# Altium integrated library NSC Interface.IntLib: 1288 symbols (part 14 of 45)
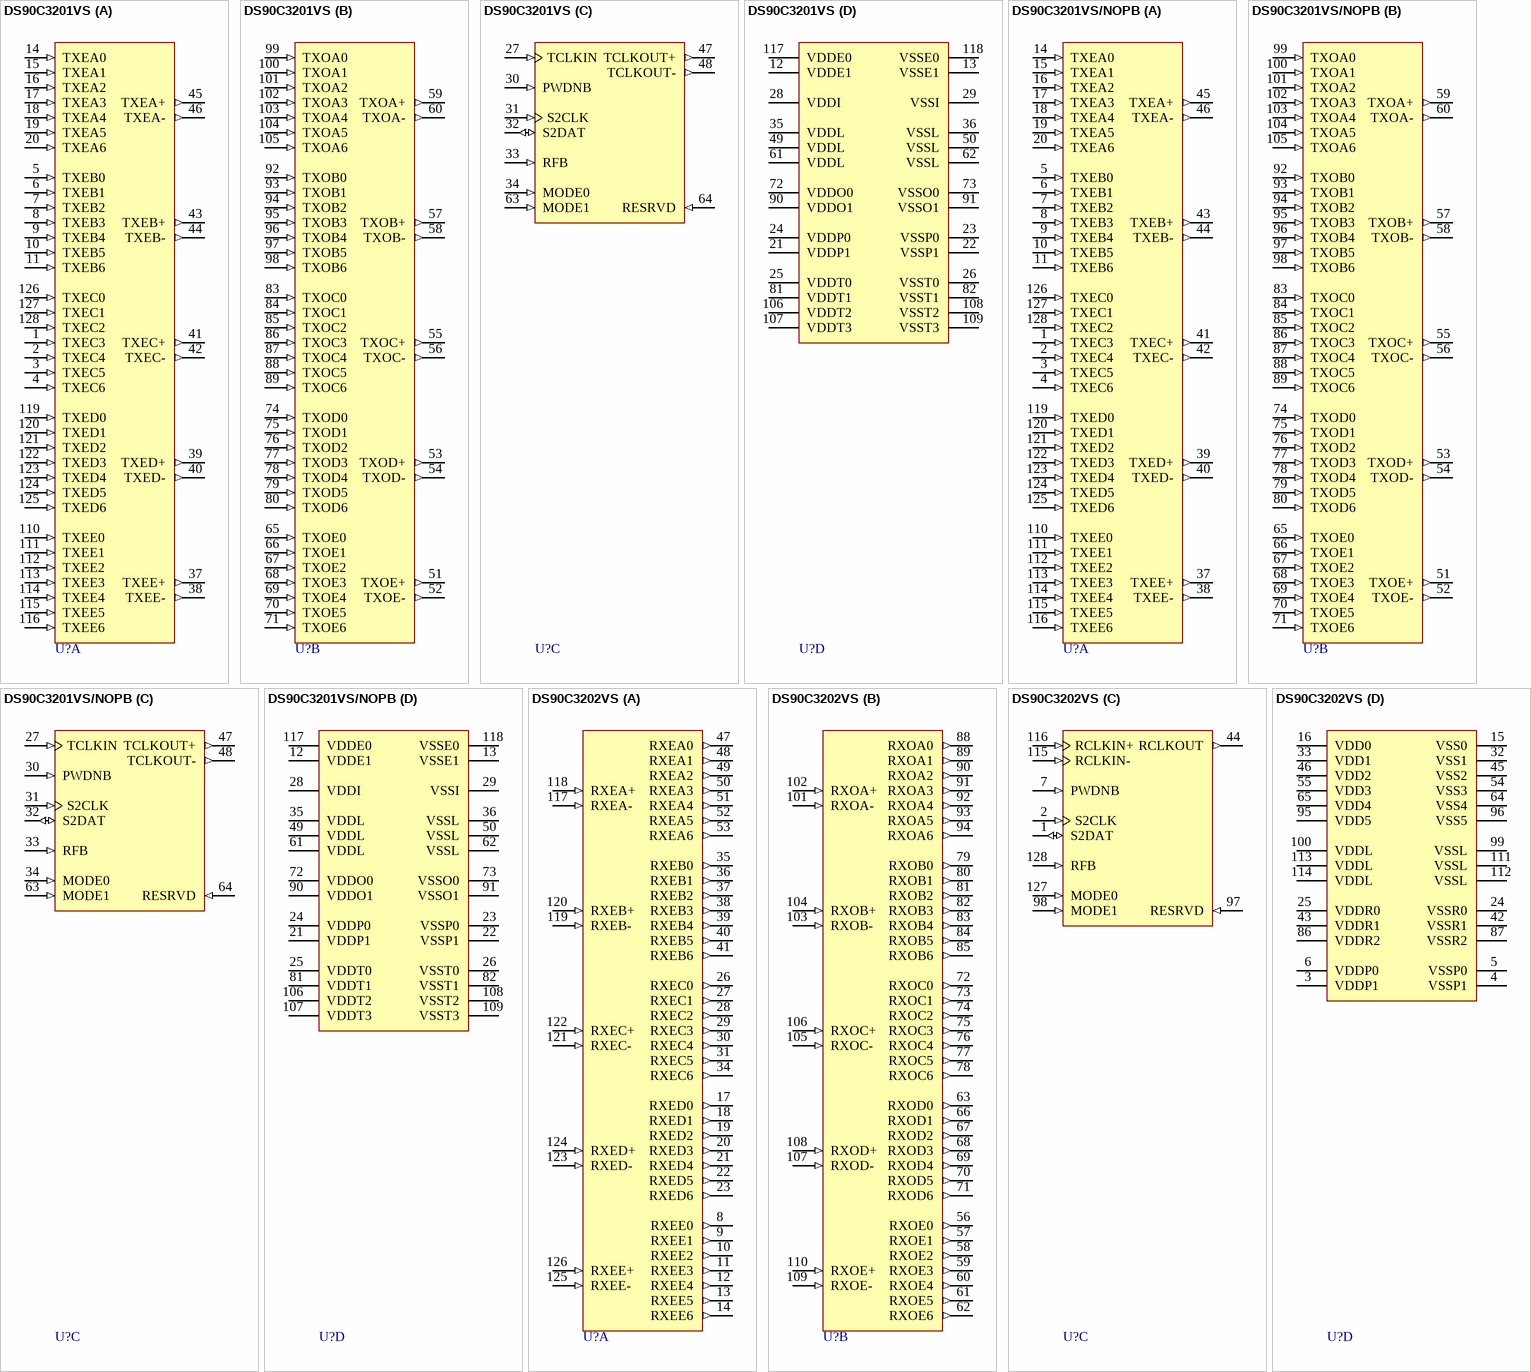
[diagram p125: symbols DS90C3201VS to DS90C3202VS]

## DS90C3201VS
designator U?
3.3V 8 MHz to 135 MHz Dual FPD-Link Transmitter, 128-pin TQFP; PartNumber: DS90C3201VS; Manufacturer: National Semiconductor; PackageTopMarking: NSUZXYYTT*DS90C3201VS; PowerWise: N; CompType: Interface IC; Published: 4-Dec-2008; DatasheetVersion: Sep-2008; PackageVersion: revA, Nov-2001; PackageReference: VJX128A; Publisher: Altium Limited; PackageDescription: TQFP, 14 x 14 x 1.0mm, 128 Lead, 0.4mm Pitch; RoHS: Y; PinCount: 128; ComponentLink1Description: DS90C3201 Datasheet; ComponentLink1URL: http://www.national.com/ds/DS/DS90C3201.pdf; ComponentLink2Description: DS90C3201 Web Page; ComponentLink2URL: http://www.national.com/pf/DS/DS90C3201.html; ComponentLink3Description: VJX128A Package Page; ComponentLink3URL: http://www.national.com/packaging/folders/vjx128a.html
footprint VJX128A_N (Thin QFP, 128-Leads, Body 14x14mm, Pitch 0.4mm, IPC Medium Density)
footprint VJX128A_L (Thin QFP, 128-Leads, Body 14x14mm, Pitch 0.4mm, IPC High Density)
footprint VJX128A_M (Thin QFP, 128-Leads, Body 14x14mm, Pitch 0.4mm, IPC Low Density)
part A pins: 1 TXEC3 (in), 2 TXEC4 (in), 3 TXEC5 (in), 4 TXEC6 (in), 5 TXEB0 (in), 6 TXEB1 (in), 7 TXEB2 (in), 8 TXEB3 (in), 9 TXEB4 (in), 10 TXEB5 (in), 11 TXEB6 (in), 14 TXEA0 (in), 15 TXEA1 (in), 16 TXEA2 (in), 17 TXEA3 (in), 18 TXEA4 (in), 19 TXEA5 (in), 20 TXEA6 (in), 37 TXEE+ (out), 38 TXEE- (out), 39 TXED+ (out), 40 TXED- (out), 41 TXEC+ (out), 42 TXEC- (out), 43 TXEB+ (out), 44 TXEB- (out), 45 TXEA+ (out), 46 TXEA- (out), 110 TXEE0 (in), 111 TXEE1 (in), 112 TXEE2 (in), 113 TXEE3 (in), 114 TXEE4 (in), 115 TXEE5 (in), 116 TXEE6 (in), 119 TXED0 (in), 120 TXED1 (in), 121 TXED2 (in), 122 TXED3 (in), 123 TXED4 (in), 124 TXED5 (in), 125 TXED6 (in), 126 TXEC0 (in), 127 TXEC1 (in), 128 TXEC2 (in)
part B pins: 51 TXOE+ (out), 52 TXOE- (out), 53 TXOD+ (out), 54 TXOD- (out), 55 TXOC+ (out), 56 TXOC- (out), 57 TXOB+ (out), 58 TXOB- (out), 59 TXOA+ (out), 60 TXOA- (out), 65 TXOE0 (in), 66 TXOE1 (in), 67 TXOE2 (in), 68 TXOE3 (in), 69 TXOE4 (in), 70 TXOE5 (in), 71 TXOE6 (in), 74 TXOD0 (in), 75 TXOD1 (in), 76 TXOD2 (in), 77 TXOD3 (in), 78 TXOD4 (in), 79 TXOD5 (in), 80 TXOD6 (in), 83 TXOC0 (in), 84 TXOC1 (in), 85 TXOC2 (in), 86 TXOC3 (in), 87 TXOC4 (in), 88 TXOC5 (in), 89 TXOC6 (in), 92 TXOB0 (in), 93 TXOB1 (in), 94 TXOB2 (in), 95 TXOB3 (in), 96 TXOB4 (in), 97 TXOB5 (in), 98 TXOB6 (in), 99 TXOA0 (in), 100 TXOA1 (in), 101 TXOA2 (in), 102 TXOA3 (in), 103 TXOA4 (in), 104 TXOA5 (in), 105 TXOA6 (in)
part C pins: 27 TCLKIN (in), 30 PWDNB (in), 31 S2CLK (in), 32 S2DAT (io), 33 RFB (in), 34 MODE0 (in), 47 TCLKOUT+ (out), 48 TCLKOUT- (out), 63 MODE1 (in), 64 RESRVD (in)
part D pins: 12 VDDE1 (power), 13 VSSE1 (power), 21 VDDP1 (power), 22 VSSP1 (power), 23 VSSP0 (power), 24 VDDP0 (power), 25 VDDT0 (power), 26 VSST0 (power), 28 VDDI (power), 29 VSSI (power), 35 VDDL (power), 36 VSSL (power), 49 VDDL (power), 50 VSSL (power), 61 VDDL (power), 62 VSSL (power), 72 VDDO0 (power), 73 VSSO0 (power), 81 VDDT1 (power), 82 VSST1 (power), 90 VDDO1 (power), 91 VSSO1 (power), 106 VDDT2 (power), 107 VDDT3 (power), 108 VSST2 (power), 109 VSST3 (power), 117 VDDE0 (power), 118 VSSE0 (power)

## DS90C3201VS/NOPB
designator U?
3.3V 8 MHz to 135 MHz Dual FPD-Link Transmitter, 128-pin TQFP, Pb-Free; PartNumber: DS90C3201VS/NOPB; Manufacturer: National Semiconductor; PackageTopMarking: NSUZXYYTTE#*DS90C3201VS; PowerWise: N; CompType: Interface IC; Published: 1-Mar-2010; DatasheetVersion: Sep-2008; PackageVersion: revA, Nov-2001; PackageReference: VJX128A; Publisher: Altium Limited; PackageDescription: TQFP, 14 x 14 x 1.0mm, 128 Lead, 0.4mm Pitch; Supplier 1: Digi-Key; Supplier Part Number 1: DS90C3201VS-ND; RoHS: Y; PinCount: 128; ComponentLink1Description: DS90C3201 Datasheet; ComponentLink1URL: http://www.national.com/ds/DS/DS90C3201.pdf; ComponentLink2Description: DS90C3201 Web Page; ComponentLink2URL: http://www.national.com/pf/DS/DS90C3201.html; ComponentLink3Description: VJX128A Package Page; ComponentLink3URL: http://www.national.com/packaging/folders/vjx128a.html
footprint VJX128A_N (Thin QFP, 128-Leads, Body 14x14mm, Pitch 0.4mm, IPC Medium Density)
footprint VJX128A_L (Thin QFP, 128-Leads, Body 14x14mm, Pitch 0.4mm, IPC High Density)
footprint VJX128A_M (Thin QFP, 128-Leads, Body 14x14mm, Pitch 0.4mm, IPC Low Density)
part A pins: 1 TXEC3 (in), 2 TXEC4 (in), 3 TXEC5 (in), 4 TXEC6 (in), 5 TXEB0 (in), 6 TXEB1 (in), 7 TXEB2 (in), 8 TXEB3 (in), 9 TXEB4 (in), 10 TXEB5 (in), 11 TXEB6 (in), 14 TXEA0 (in), 15 TXEA1 (in), 16 TXEA2 (in), 17 TXEA3 (in), 18 TXEA4 (in), 19 TXEA5 (in), 20 TXEA6 (in), 37 TXEE+ (out), 38 TXEE- (out), 39 TXED+ (out), 40 TXED- (out), 41 TXEC+ (out), 42 TXEC- (out), 43 TXEB+ (out), 44 TXEB- (out), 45 TXEA+ (out), 46 TXEA- (out), 110 TXEE0 (in), 111 TXEE1 (in), 112 TXEE2 (in), 113 TXEE3 (in), 114 TXEE4 (in), 115 TXEE5 (in), 116 TXEE6 (in), 119 TXED0 (in), 120 TXED1 (in), 121 TXED2 (in), 122 TXED3 (in), 123 TXED4 (in), 124 TXED5 (in), 125 TXED6 (in), 126 TXEC0 (in), 127 TXEC1 (in), 128 TXEC2 (in)
part B pins: 51 TXOE+ (out), 52 TXOE- (out), 53 TXOD+ (out), 54 TXOD- (out), 55 TXOC+ (out), 56 TXOC- (out), 57 TXOB+ (out), 58 TXOB- (out), 59 TXOA+ (out), 60 TXOA- (out), 65 TXOE0 (in), 66 TXOE1 (in), 67 TXOE2 (in), 68 TXOE3 (in), 69 TXOE4 (in), 70 TXOE5 (in), 71 TXOE6 (in), 74 TXOD0 (in), 75 TXOD1 (in), 76 TXOD2 (in), 77 TXOD3 (in), 78 TXOD4 (in), 79 TXOD5 (in), 80 TXOD6 (in), 83 TXOC0 (in), 84 TXOC1 (in), 85 TXOC2 (in), 86 TXOC3 (in), 87 TXOC4 (in), 88 TXOC5 (in), 89 TXOC6 (in), 92 TXOB0 (in), 93 TXOB1 (in), 94 TXOB2 (in), 95 TXOB3 (in), 96 TXOB4 (in), 97 TXOB5 (in), 98 TXOB6 (in), 99 TXOA0 (in), 100 TXOA1 (in), 101 TXOA2 (in), 102 TXOA3 (in), 103 TXOA4 (in), 104 TXOA5 (in), 105 TXOA6 (in)
part C pins: 27 TCLKIN (in), 30 PWDNB (in), 31 S2CLK (in), 32 S2DAT (io), 33 RFB (in), 34 MODE0 (in), 47 TCLKOUT+ (out), 48 TCLKOUT- (out), 63 MODE1 (in), 64 RESRVD (in)
part D pins: 12 VDDE1 (power), 13 VSSE1 (power), 21 VDDP1 (power), 22 VSSP1 (power), 23 VSSP0 (power), 24 VDDP0 (power), 25 VDDT0 (power), 26 VSST0 (power), 28 VDDI (power), 29 VSSI (power), 35 VDDL (power), 36 VSSL (power), 49 VDDL (power), 50 VSSL (power), 61 VDDL (power), 62 VSSL (power), 72 VDDO0 (power), 73 VSSO0 (power), 81 VDDT1 (power), 82 VSST1 (power), 90 VDDO1 (power), 91 VSSO1 (power), 106 VDDT2 (power), 107 VDDT3 (power), 108 VSST2 (power), 109 VSST3 (power), 117 VDDE0 (power), 118 VSSE0 (power)

## DS90C3202VS
designator U?
3.3V 8 MHz to 135 MHz Dual FPD-Link Receiver, 128-pin TQFP; PartNumber: DS90C3202VS; Manufacturer: National Semiconductor; PackageTopMarking: NSUZXYYTT*DS90C3202VS; PowerWise: N; CompType: Interface IC; Published: 4-Dec-2008; DatasheetVersion: Sep-2006; PackageVersion: revA, Nov-2001; PackageReference: VJX128A; Publisher: Altium Limited; PackageDescription: TQFP, 14 x 14 x 1.0mm, 128 Lead, 0.4mm Pitch; RoHS: Y; PinCount: 128; ComponentLink1Description: DS90C3202 Datasheet; ComponentLink1URL: http://www.national.com/ds/DS/DS90C3202.pdf; ComponentLink2Description: DS90C3202 Web Page; ComponentLink2URL: http://www.national.com/pf/DS/DS90C3202.html; ComponentLink3Description: VJX128A Package Page; ComponentLink3URL: http://www.national.com/packaging/folders/vjx128a.html
footprint VJX128A_N (Thin QFP, 128-Leads, Body 14x14mm, Pitch 0.4mm, IPC Medium Density)
footprint VJX128A_L (Thin QFP, 128-Leads, Body 14x14mm, Pitch 0.4mm, IPC High Density)
footprint VJX128A_M (Thin QFP, 128-Leads, Body 14x14mm, Pitch 0.4mm, IPC Low Density)
part A pins: 8 RXEE0 (out), 9 RXEE1 (out), 10 RXEE2 (out), 11 RXEE3 (out), 12 RXEE4 (out), 13 RXEE5 (out), 14 RXEE6 (out), 17 RXED0 (out), 18 RXED1 (out), 19 RXED2 (out), 20 RXED3 (out), 21 RXED4 (out), 22 RXED5 (out), 23 RXED6 (out), 26 RXEC0 (out), 27 RXEC1 (out), 28 RXEC2 (out), 29 RXEC3 (out), 30 RXEC4 (out), 31 RXEC5 (out), 34 RXEC6 (out), 35 RXEB0 (out), 36 RXEB1 (out), 37 RXEB2 (out), 38 RXEB3 (out), 39 RXEB4 (out), 40 RXEB5 (out), 41 RXEB6 (out), 47 RXEA0 (out), 48 RXEA1 (out), 49 RXEA2 (out), 50 RXEA3 (out), 51 RXEA4 (out), 52 RXEA5 (out), 53 RXEA6 (out), 117 RXEA- (in), 118 RXEA+ (in), 119 RXEB- (in), 120 RXEB+ (in), 121 RXEC- (in), 122 RXEC+ (in), 123 RXED- (in), 124 RXED+ (in), 125 RXEE- (in), 126 RXEE+ (in)
part B pins: 56 RXOE0 (out), 57 RXOE1 (out), 58 RXOE2 (out), 59 RXOE3 (out), 60 RXOE4 (out), 61 RXOE5 (out), 62 RXOE6 (out), 63 RXOD0 (out), 66 RXOD1 (out), 67 RXOD2 (out), 68 RXOD3 (out), 69 RXOD4 (out), 70 RXOD5 (out), 71 RXOD6 (out), 72 RXOC0 (out), 73 RXOC1 (out), 74 RXOC2 (out), 75 RXOC3 (out), 76 RXOC4 (out), 77 RXOC5 (out), 78 RXOC6 (out), 79 RXOB0 (out), 80 RXOB1 (out), 81 RXOB2 (out), 82 RXOB3 (out), 83 RXOB4 (out), 84 RXOB5 (out), 85 RXOB6 (out), 88 RXOA0 (out), 89 RXOA1 (out), 90 RXOA2 (out), 91 RXOA3 (out), 92 RXOA4 (out), 93 RXOA5 (out), 94 RXOA6 (out), 101 RXOA- (in), 102 RXOA+ (in), 103 RXOB- (in), 104 RXOB+ (in), 105 RXOC- (in), 106 RXOC+ (in), 107 RXOD- (in), 108 RXOD+ (in), 109 RXOE- (in), 110 RXOE+ (in)
part C pins: 1 S2DAT (io), 2 S2CLK (in), 7 PWDNB (in), 44 RCLKOUT (out), 97 RESRVD (in), 98 MODE1 (in), 115 RCLKIN- (in), 116 RCLKIN+ (in), 127 MODE0 (in), 128 RFB (in)
part D pins: 3 VDDP1 (power), 4 VSSP1 (power), 5 VSSP0 (power), 6 VDDP0 (power), 15 VSS0 (power), 16 VDD0 (power), 24 VSSR0 (power), 25 VDDR0 (power), 32 VSS1 (power), 33 VDD1 (power), 42 VSSR1 (power), 43 VDDR1 (power), 45 VSS2 (power), 46 VDD2 (power), 54 VSS3 (power), 55 VDD3 (power), 64 VSS4 (power), 65 VDD4 (power), 86 VDDR2 (power), 87 VSSR2 (power), 95 VDD5 (power), 96 VSS5 (power), 99 VSSL (power), 100 VDDL (power), 111 VSSL (power), 112 VSSL (power), 113 VDDL (power), 114 VDDL (power)

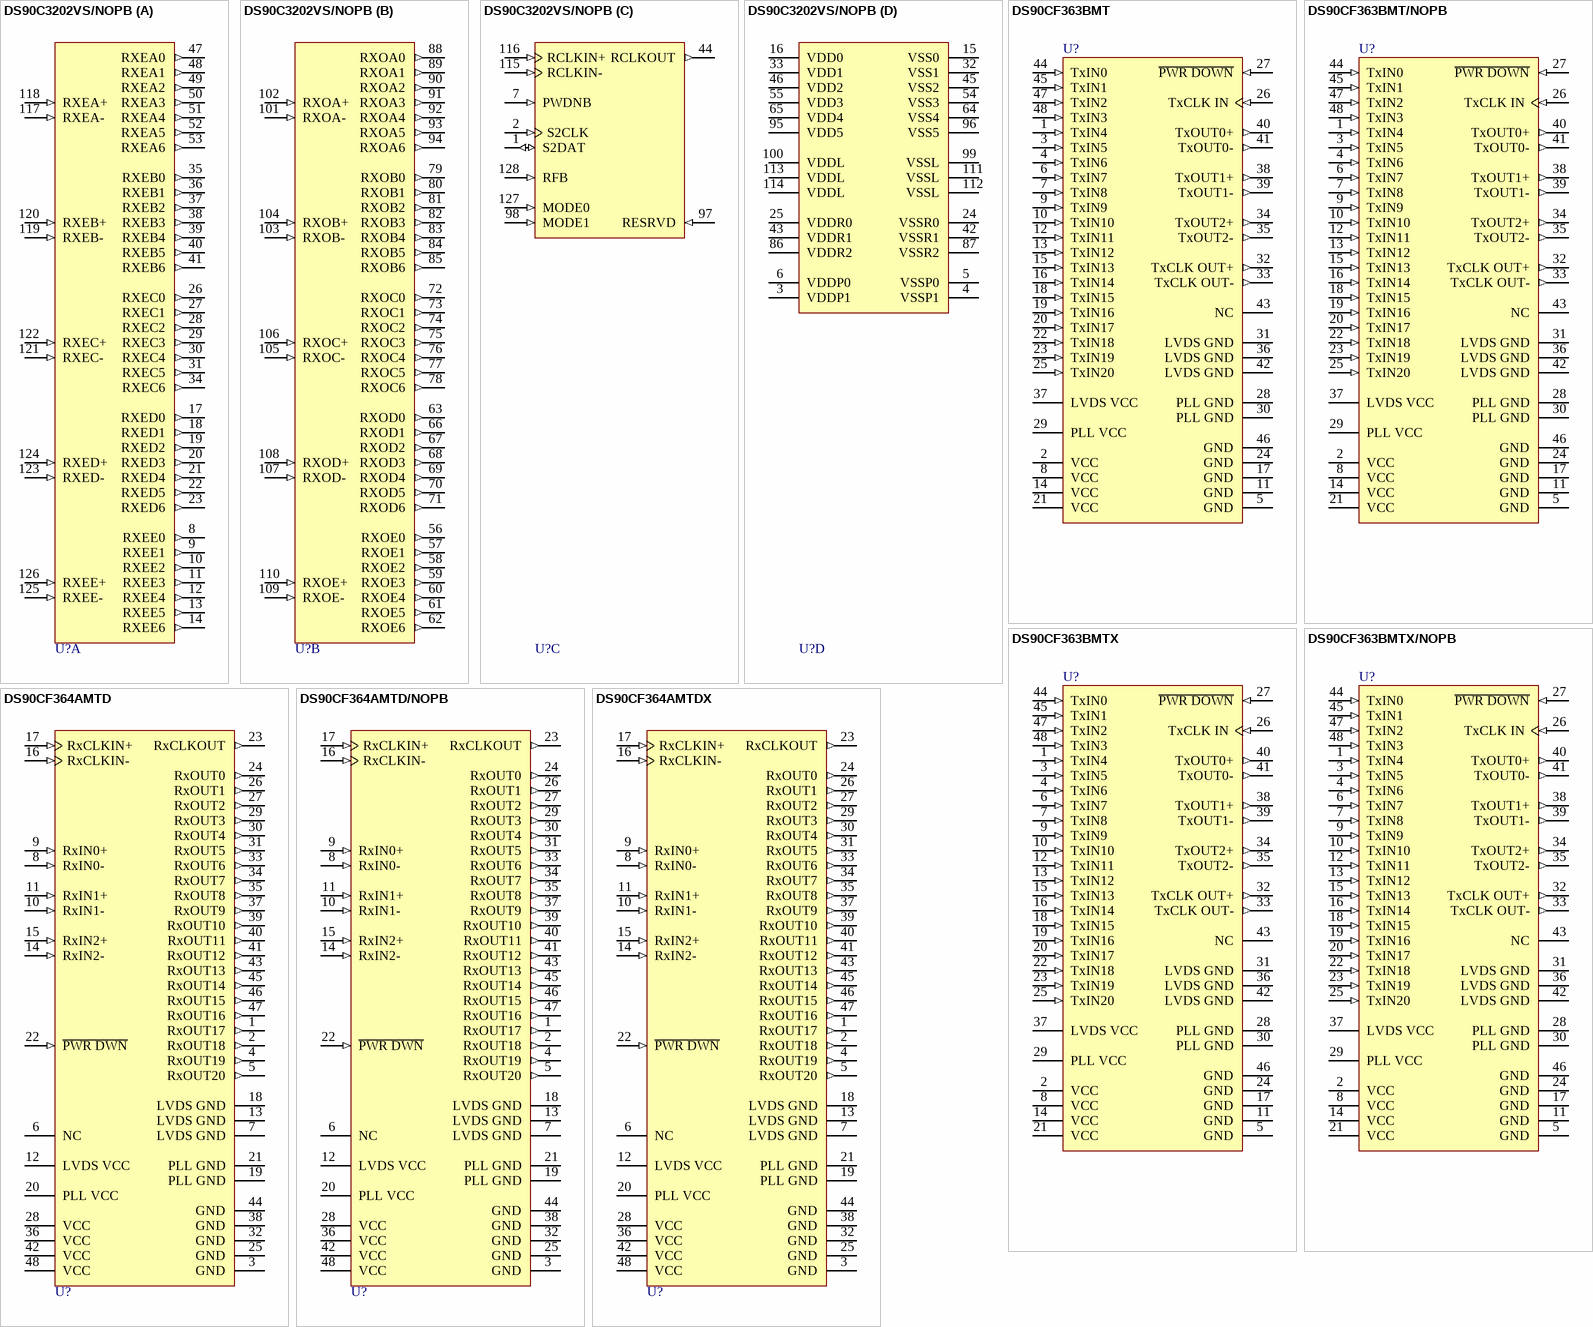
[diagram p35: symbols DS90C3202VS/NOPB to DS90CF364AMTDX]

## DS90C3202VS/NOPB
designator U?
3.3V 8 MHz to 135 MHz Dual FPD-Link Receiver, 128-pin TQFP, Pb-Free; PartNumber: DS90C3202VS/NOPB; Manufacturer: National Semiconductor; PackageTopMarking: NSUZXYYTTE#*DS90C3202VS; PowerWise: N; CompType: Interface IC; Published: 1-Mar-2010; DatasheetVersion: Sep-2006; PackageVersion: revA, Nov-2001; PackageReference: VJX128A; Publisher: Altium Limited; PackageDescription: TQFP, 14 x 14 x 1.0mm, 128 Lead, 0.4mm Pitch; Supplier 1: Digi-Key; Supplier Part Number 1: DS90C3202VS-ND; Supplier 2: Farnell; Supplier Part Number 2: 1685771; RoHS: Y; PinCount: 128; ComponentLink1Description: DS90C3202 Datasheet; ComponentLink1URL: http://www.national.com/ds/DS/DS90C3202.pdf; ComponentLink2Description: DS90C3202 Web Page; ComponentLink2URL: http://www.national.com/pf/DS/DS90C3202.html; ComponentLink3Description: VJX128A Package Page; ComponentLink3URL: http://www.national.com/packaging/folders/vjx128a.html
footprint VJX128A_N (Thin QFP, 128-Leads, Body 14x14mm, Pitch 0.4mm, IPC Medium Density)
footprint VJX128A_L (Thin QFP, 128-Leads, Body 14x14mm, Pitch 0.4mm, IPC High Density)
footprint VJX128A_M (Thin QFP, 128-Leads, Body 14x14mm, Pitch 0.4mm, IPC Low Density)
part A pins: 8 RXEE0 (out), 9 RXEE1 (out), 10 RXEE2 (out), 11 RXEE3 (out), 12 RXEE4 (out), 13 RXEE5 (out), 14 RXEE6 (out), 17 RXED0 (out), 18 RXED1 (out), 19 RXED2 (out), 20 RXED3 (out), 21 RXED4 (out), 22 RXED5 (out), 23 RXED6 (out), 26 RXEC0 (out), 27 RXEC1 (out), 28 RXEC2 (out), 29 RXEC3 (out), 30 RXEC4 (out), 31 RXEC5 (out), 34 RXEC6 (out), 35 RXEB0 (out), 36 RXEB1 (out), 37 RXEB2 (out), 38 RXEB3 (out), 39 RXEB4 (out), 40 RXEB5 (out), 41 RXEB6 (out), 47 RXEA0 (out), 48 RXEA1 (out), 49 RXEA2 (out), 50 RXEA3 (out), 51 RXEA4 (out), 52 RXEA5 (out), 53 RXEA6 (out), 117 RXEA- (in), 118 RXEA+ (in), 119 RXEB- (in), 120 RXEB+ (in), 121 RXEC- (in), 122 RXEC+ (in), 123 RXED- (in), 124 RXED+ (in), 125 RXEE- (in), 126 RXEE+ (in)
part B pins: 56 RXOE0 (out), 57 RXOE1 (out), 58 RXOE2 (out), 59 RXOE3 (out), 60 RXOE4 (out), 61 RXOE5 (out), 62 RXOE6 (out), 63 RXOD0 (out), 66 RXOD1 (out), 67 RXOD2 (out), 68 RXOD3 (out), 69 RXOD4 (out), 70 RXOD5 (out), 71 RXOD6 (out), 72 RXOC0 (out), 73 RXOC1 (out), 74 RXOC2 (out), 75 RXOC3 (out), 76 RXOC4 (out), 77 RXOC5 (out), 78 RXOC6 (out), 79 RXOB0 (out), 80 RXOB1 (out), 81 RXOB2 (out), 82 RXOB3 (out), 83 RXOB4 (out), 84 RXOB5 (out), 85 RXOB6 (out), 88 RXOA0 (out), 89 RXOA1 (out), 90 RXOA2 (out), 91 RXOA3 (out), 92 RXOA4 (out), 93 RXOA5 (out), 94 RXOA6 (out), 101 RXOA- (in), 102 RXOA+ (in), 103 RXOB- (in), 104 RXOB+ (in), 105 RXOC- (in), 106 RXOC+ (in), 107 RXOD- (in), 108 RXOD+ (in), 109 RXOE- (in), 110 RXOE+ (in)
part C pins: 1 S2DAT (io), 2 S2CLK (in), 7 PWDNB (in), 44 RCLKOUT (out), 97 RESRVD (in), 98 MODE1 (in), 115 RCLKIN- (in), 116 RCLKIN+ (in), 127 MODE0 (in), 128 RFB (in)
part D pins: 3 VDDP1 (power), 4 VSSP1 (power), 5 VSSP0 (power), 6 VDDP0 (power), 15 VSS0 (power), 16 VDD0 (power), 24 VSSR0 (power), 25 VDDR0 (power), 32 VSS1 (power), 33 VDD1 (power), 42 VSSR1 (power), 43 VDDR1 (power), 45 VSS2 (power), 46 VDD2 (power), 54 VSS3 (power), 55 VDD3 (power), 64 VSS4 (power), 65 VDD4 (power), 86 VDDR2 (power), 87 VSSR2 (power), 95 VDD5 (power), 96 VSS5 (power), 99 VSSL (power), 100 VDDL (power), 111 VSSL (power), 112 VSSL (power), 113 VDDL (power), 114 VDDL (power)

## DS90CF363BMT
designator U?
+3.3V Programmable LVDS Transmitter 18-Bit Flat Panel Display (FPD) Link - 65MHz, 48-pin TSSOP; PartNumber: DS90CF363BMT; Manufacturer: National Semiconductor; PackageTopMarking: NSUZXYTTE#*DS90CF363BMT; PowerWise: N; CompType: Interface IC; Published: 4-Dec-2008; DatasheetVersion: Oct-2006; PackageVersion: revE, Apr-2003; PackageReference: MTD48; Publisher: Altium Limited; PackageDescription: Molded TSSOP, Jedec, 12.5 x 6.1 x 0.9mm Body, 48 Lead, 0.50mm Pitch; Supplier 1: Farnell; Supplier Part Number 1: 8238618; RoHS: N; PinCount: 48; Code_JEDEC: MO-153-ED; ComponentLink1Description: DS90CF363B Datasheet; ComponentLink1URL: http://www.national.com/ds/DS/DS90CF363B.pdf; ComponentLink2Description: DS90CF363B Web Page; ComponentLink2URL: http://www.national.com/pf/DS/DS90CF363B.html; ComponentLink3Description: MTD48 Package Page; ComponentLink3URL: http://www.national.com/packaging/folders/mtd48.html
footprint MTD48_N (TSSOP, 48-Leads, Body 12.5x6.1mm, Pitch 0.5mm, IPC Medium Density)
footprint MTD48_L (TSSOP, 48-Leads, Body 12.5x6.1mm, Pitch 0.5mm, IPC High Density)
footprint MTD48_M (TSSOP, 48-Leads, Body 12.5x6.1mm, Pitch 0.5mm, IPC Low Density)
pins: 1 TxIN4 (in), 2 VCC (power), 3 TxIN5 (in), 4 TxIN6 (in), 5 GND (power), 6 TxIN7 (in), 7 TxIN8 (in), 8 VCC (power), 9 TxIN9 (in), 10 TxIN10 (in), 11 GND (power), 12 TxIN11 (in), 13 TxIN12 (in), 14 VCC (power), 15 TxIN13 (in), 16 TxIN14 (in), 17 GND (power), 18 TxIN15 (in), 19 TxIN16 (in), 20 TxIN17 (in), 21 VCC (power), 22 TxIN18 (in), 23 TxIN19 (in), 24 GND (power), 25 TxIN20 (in), 26 TxCLK IN (in), 27 ~{PWR DOWN} (in), 28 PLL GND (power), 29 PLL VCC (power), 30 PLL GND (power), 31 LVDS GND (power), 32 TxCLK OUT+ (out), 33 TxCLK OUT- (out), 34 TxOUT2+ (out), 35 TxOUT2- (out), 36 LVDS GND (power), 37 LVDS VCC (power), 38 TxOUT1+ (out), 39 TxOUT1- (out), 40 TxOUT0+ (out), 41 TxOUT0- (out), 42 LVDS GND (power), 43 NC, 44 TxIN0 (in), 45 TxIN1 (in), 46 GND (power), 47 TxIN2 (in), 48 TxIN3 (in)

## DS90CF363BMT/NOPB
designator U?
+3.3V Programmable LVDS Transmitter 18-Bit Flat Panel Display (FPD) Link - 65MHz, 48-pin TSSOP, Pb-Free; PartNumber: DS90CF363BMT/NOPB; Manufacturer: National Semiconductor; PackageTopMarking: NSUZXYTTE#*DS90CF363BMT; PowerWise: N; CompType: Interface IC; Published: 1-Mar-2010; DatasheetVersion: Oct-2006; PackageVersion: revE, Apr-2003; PackageReference: MTD48; Publisher: Altium Limited; PackageDescription: Molded TSSOP, Jedec, 12.5 x 6.1 x 0.9mm Body, 48 Lead, 0.50mm Pitch; Supplier 1: Digi-Key; Supplier Part Number 1: DS90CF363BMT-ND; RoHS: Y; PinCount: 48; Code_JEDEC: MO-153-ED; ComponentLink1Description: DS90CF363B Datasheet; ComponentLink1URL: http://www.national.com/ds/DS/DS90CF363B.pdf; ComponentLink2Description: DS90CF363B Web Page; ComponentLink2URL: http://www.national.com/pf/DS/DS90CF363B.html; ComponentLink3Description: MTD48 Package Page; ComponentLink3URL: http://www.national.com/packaging/folders/mtd48.html
footprint MTD48_N (TSSOP, 48-Leads, Body 12.5x6.1mm, Pitch 0.5mm, IPC Medium Density)
footprint MTD48_L (TSSOP, 48-Leads, Body 12.5x6.1mm, Pitch 0.5mm, IPC High Density)
footprint MTD48_M (TSSOP, 48-Leads, Body 12.5x6.1mm, Pitch 0.5mm, IPC Low Density)
pins: 1 TxIN4 (in), 2 VCC (power), 3 TxIN5 (in), 4 TxIN6 (in), 5 GND (power), 6 TxIN7 (in), 7 TxIN8 (in), 8 VCC (power), 9 TxIN9 (in), 10 TxIN10 (in), 11 GND (power), 12 TxIN11 (in), 13 TxIN12 (in), 14 VCC (power), 15 TxIN13 (in), 16 TxIN14 (in), 17 GND (power), 18 TxIN15 (in), 19 TxIN16 (in), 20 TxIN17 (in), 21 VCC (power), 22 TxIN18 (in), 23 TxIN19 (in), 24 GND (power), 25 TxIN20 (in), 26 TxCLK IN (in), 27 ~{PWR DOWN} (in), 28 PLL GND (power), 29 PLL VCC (power), 30 PLL GND (power), 31 LVDS GND (power), 32 TxCLK OUT+ (out), 33 TxCLK OUT- (out), 34 TxOUT2+ (out), 35 TxOUT2- (out), 36 LVDS GND (power), 37 LVDS VCC (power), 38 TxOUT1+ (out), 39 TxOUT1- (out), 40 TxOUT0+ (out), 41 TxOUT0- (out), 42 LVDS GND (power), 43 NC, 44 TxIN0 (in), 45 TxIN1 (in), 46 GND (power), 47 TxIN2 (in), 48 TxIN3 (in)

## DS90CF363BMTX
designator U?
+3.3V Programmable LVDS Transmitter 18-Bit Flat Panel Display (FPD) Link - 65MHz, 48-pin TSSOP; PartNumber: DS90CF363BMTX; Manufacturer: National Semiconductor; PackageTopMarking: NSUZXYTTE#*DS90CF363BMT; PowerWise: N; CompType: Interface IC; Published: 1-Mar-2010; DatasheetVersion: Oct-2006; PackageVersion: revE, Apr-2003; PackageReference: MTD48; Publisher: Altium Limited; PackageDescription: Molded TSSOP, Jedec, 12.5 x 6.1 x 0.9mm Body, 48 Lead, 0.50mm Pitch; RoHS: N; PinCount: 48; Code_JEDEC: MO-153-ED; ComponentLink1Description: DS90CF363B Datasheet; ComponentLink1URL: http://www.national.com/ds/DS/DS90CF363B.pdf; ComponentLink2Description: DS90CF363B Web Page; ComponentLink2URL: http://www.national.com/pf/DS/DS90CF363B.html; ComponentLink3Description: MTD48 Package Page; ComponentLink3URL: http://www.national.com/packaging/folders/mtd48.html
footprint MTD48_N (TSSOP, 48-Leads, Body 12.5x6.1mm, Pitch 0.5mm, IPC Medium Density)
footprint MTD48_L (TSSOP, 48-Leads, Body 12.5x6.1mm, Pitch 0.5mm, IPC High Density)
footprint MTD48_M (TSSOP, 48-Leads, Body 12.5x6.1mm, Pitch 0.5mm, IPC Low Density)
pins: 1 TxIN4 (in), 2 VCC (power), 3 TxIN5 (in), 4 TxIN6 (in), 5 GND (power), 6 TxIN7 (in), 7 TxIN8 (in), 8 VCC (power), 9 TxIN9 (in), 10 TxIN10 (in), 11 GND (power), 12 TxIN11 (in), 13 TxIN12 (in), 14 VCC (power), 15 TxIN13 (in), 16 TxIN14 (in), 17 GND (power), 18 TxIN15 (in), 19 TxIN16 (in), 20 TxIN17 (in), 21 VCC (power), 22 TxIN18 (in), 23 TxIN19 (in), 24 GND (power), 25 TxIN20 (in), 26 TxCLK IN (in), 27 ~{PWR DOWN} (in), 28 PLL GND (power), 29 PLL VCC (power), 30 PLL GND (power), 31 LVDS GND (power), 32 TxCLK OUT+ (out), 33 TxCLK OUT- (out), 34 TxOUT2+ (out), 35 TxOUT2- (out), 36 LVDS GND (power), 37 LVDS VCC (power), 38 TxOUT1+ (out), 39 TxOUT1- (out), 40 TxOUT0+ (out), 41 TxOUT0- (out), 42 LVDS GND (power), 43 NC, 44 TxIN0 (in), 45 TxIN1 (in), 46 GND (power), 47 TxIN2 (in), 48 TxIN3 (in)

## DS90CF363BMTX/NOPB
designator U?
+3.3V Programmable LVDS Transmitter 18-Bit Flat Panel Display (FPD) Link - 65MHz, 48-pin TSSOP, Pb-Free; PartNumber: DS90CF363BMTX/NOPB; Manufacturer: National Semiconductor; PackageTopMarking: NSUZXYTTE#*DS90CF363BMT; PowerWise: N; CompType: Interface IC; Published: 1-Mar-2010; DatasheetVersion: Oct-2006; PackageVersion: revE, Apr-2003; PackageReference: MTD48; Publisher: Altium Limited; PackageDescription: Molded TSSOP, Jedec, 12.5 x 6.1 x 0.9mm Body, 48 Lead, 0.50mm Pitch; Supplier 1: Digi-Key; Supplier Part Number 1: DS90CF363BMTX-ND; RoHS: Y; PinCount: 48; Code_JEDEC: MO-153-ED; ComponentLink1Description: DS90CF363B Datasheet; ComponentLink1URL: http://www.national.com/ds/DS/DS90CF363B.pdf; ComponentLink2Description: DS90CF363B Web Page; ComponentLink2URL: http://www.national.com/pf/DS/DS90CF363B.html; ComponentLink3Description: MTD48 Package Page; ComponentLink3URL: http://www.national.com/packaging/folders/mtd48.html
footprint MTD48_N (TSSOP, 48-Leads, Body 12.5x6.1mm, Pitch 0.5mm, IPC Medium Density)
footprint MTD48_L (TSSOP, 48-Leads, Body 12.5x6.1mm, Pitch 0.5mm, IPC High Density)
footprint MTD48_M (TSSOP, 48-Leads, Body 12.5x6.1mm, Pitch 0.5mm, IPC Low Density)
pins: 1 TxIN4 (in), 2 VCC (power), 3 TxIN5 (in), 4 TxIN6 (in), 5 GND (power), 6 TxIN7 (in), 7 TxIN8 (in), 8 VCC (power), 9 TxIN9 (in), 10 TxIN10 (in), 11 GND (power), 12 TxIN11 (in), 13 TxIN12 (in), 14 VCC (power), 15 TxIN13 (in), 16 TxIN14 (in), 17 GND (power), 18 TxIN15 (in), 19 TxIN16 (in), 20 TxIN17 (in), 21 VCC (power), 22 TxIN18 (in), 23 TxIN19 (in), 24 GND (power), 25 TxIN20 (in), 26 TxCLK IN (in), 27 ~{PWR DOWN} (in), 28 PLL GND (power), 29 PLL VCC (power), 30 PLL GND (power), 31 LVDS GND (power), 32 TxCLK OUT+ (out), 33 TxCLK OUT- (out), 34 TxOUT2+ (out), 35 TxOUT2- (out), 36 LVDS GND (power), 37 LVDS VCC (power), 38 TxOUT1+ (out), 39 TxOUT1- (out), 40 TxOUT0+ (out), 41 TxOUT0- (out), 42 LVDS GND (power), 43 NC, 44 TxIN0 (in), 45 TxIN1 (in), 46 GND (power), 47 TxIN2 (in), 48 TxIN3 (in)

## DS90CF364AMTD
designator U?
+3.3V LVDS Receiver 18-Bit Flat Panel Display (FPD) Link - 65 MHz, 48-pin TSSOP; PartNumber: DS90CF364AMTD; Manufacturer: National Semiconductor; PackageTopMarking: NS2ZXYTTE#*DS90CF364AMTD*BBBBB; PowerWise: N; CompType: Interface IC; Published: 4-Dec-2008; DatasheetVersion: Jul-2007; PackageVersion: revE, Apr-2003; PackageReference: MTD48; Publisher: Altium Limited; PackageDescription: Molded TSSOP, Jedec, 12.5 x 6.1 x 0.9mm Body, 48 Lead, 0.50mm Pitch; RoHS: N; PinCount: 48; Code_JEDEC: MO-153-ED; ComponentLink1Description: DS90CF364A Datasheet; ComponentLink1URL: http://www.national.com/ds/DS/DS90CF364A.pdf; ComponentLink2Description: DS90CF364A Web Page; ComponentLink2URL: http://www.national.com/pf/DS/DS90CF364A.html; ComponentLink3Description: MTD48 Package Page; ComponentLink3URL: http://www.national.com/packaging/folders/mtd48.html
footprint MTD48_N (TSSOP, 48-Leads, Body 12.5x6.1mm, Pitch 0.5mm, IPC Medium Density)
footprint MTD48_L (TSSOP, 48-Leads, Body 12.5x6.1mm, Pitch 0.5mm, IPC High Density)
footprint MTD48_M (TSSOP, 48-Leads, Body 12.5x6.1mm, Pitch 0.5mm, IPC Low Density)
pins: 1 RxOUT17 (out), 2 RxOUT18 (out), 3 GND (power), 4 RxOUT19 (out), 5 RxOUT20 (out), 6 NC, 7 LVDS GND (power), 8 RxIN0- (in), 9 RxIN0+ (in), 10 RxIN1- (in), 11 RxIN1+ (in), 12 LVDS VCC (power), 13 LVDS GND (power), 14 RxIN2- (in), 15 RxIN2+ (in), 16 RxCLKIN- (in), 17 RxCLKIN+ (in), 18 LVDS GND (power), 19 PLL GND (power), 20 PLL VCC (power), 21 PLL GND (power), 22 ~{PWR DWN} (in), 23 RxCLKOUT (out), 24 RxOUT0 (out), 25 GND (power), 26 RxOUT1 (out), 27 RxOUT2 (out), 28 VCC (power), 29 RxOUT3 (out), 30 RxOUT4 (out), 31 RxOUT5 (out), 32 GND (power), 33 RxOUT6 (out), 34 RxOUT7 (out), 35 RxOUT8 (out), 36 VCC (power), 37 RxOUT9 (out), 38 GND (power), 39 RxOUT10 (out), 40 RxOUT11 (out), 41 RxOUT12 (out), 42 VCC (power), 43 RxOUT13 (out), 44 GND (power), 45 RxOUT14 (out), 46 RxOUT15 (out), 47 RxOUT16 (out), 48 VCC (power)

## DS90CF364AMTD/NOPB
designator U?
+3.3V LVDS Receiver 18-Bit Flat Panel Display (FPD) Link - 65 MHz, 48-pin TSSOP, Pb-Free; PartNumber: DS90CF364AMTD/NOPB; Manufacturer: National Semiconductor; PackageTopMarking: NS2ZXYTTE#*DS90CF364AMTD*BBBBB; PowerWise: N; CompType: Interface IC; Published: 1-Mar-2010; DatasheetVersion: Jul-2007; PackageVersion: revE, Apr-2003; PackageReference: MTD48; Publisher: Altium Limited; PackageDescription: Molded TSSOP, Jedec, 12.5 x 6.1 x 0.9mm Body, 48 Lead, 0.50mm Pitch; Supplier 1: Digi-Key; Supplier Part Number 1: DS90CF364AMTD-ND; Supplier 2: Farnell; Supplier Part Number 2: 1468865; RoHS: Y; PinCount: 48; Code_JEDEC: MO-153-ED; ComponentLink1Description: DS90CF364A Datasheet; ComponentLink1URL: http://www.national.com/ds/DS/DS90CF364A.pdf; ComponentLink2Description: DS90CF364A Web Page; ComponentLink2URL: http://www.national.com/pf/DS/DS90CF364A.html; ComponentLink3Description: MTD48 Package Page; ComponentLink3URL: http://www.national.com/packaging/folders/mtd48.html
footprint MTD48_N (TSSOP, 48-Leads, Body 12.5x6.1mm, Pitch 0.5mm, IPC Medium Density)
footprint MTD48_L (TSSOP, 48-Leads, Body 12.5x6.1mm, Pitch 0.5mm, IPC High Density)
footprint MTD48_M (TSSOP, 48-Leads, Body 12.5x6.1mm, Pitch 0.5mm, IPC Low Density)
pins: 1 RxOUT17 (out), 2 RxOUT18 (out), 3 GND (power), 4 RxOUT19 (out), 5 RxOUT20 (out), 6 NC, 7 LVDS GND (power), 8 RxIN0- (in), 9 RxIN0+ (in), 10 RxIN1- (in), 11 RxIN1+ (in), 12 LVDS VCC (power), 13 LVDS GND (power), 14 RxIN2- (in), 15 RxIN2+ (in), 16 RxCLKIN- (in), 17 RxCLKIN+ (in), 18 LVDS GND (power), 19 PLL GND (power), 20 PLL VCC (power), 21 PLL GND (power), 22 ~{PWR DWN} (in), 23 RxCLKOUT (out), 24 RxOUT0 (out), 25 GND (power), 26 RxOUT1 (out), 27 RxOUT2 (out), 28 VCC (power), 29 RxOUT3 (out), 30 RxOUT4 (out), 31 RxOUT5 (out), 32 GND (power), 33 RxOUT6 (out), 34 RxOUT7 (out), 35 RxOUT8 (out), 36 VCC (power), 37 RxOUT9 (out), 38 GND (power), 39 RxOUT10 (out), 40 RxOUT11 (out), 41 RxOUT12 (out), 42 VCC (power), 43 RxOUT13 (out), 44 GND (power), 45 RxOUT14 (out), 46 RxOUT15 (out), 47 RxOUT16 (out), 48 VCC (power)

## DS90CF364AMTDX
designator U?
+3.3V LVDS Receiver 18-Bit Flat Panel Display (FPD) Link - 65 MHz, 48-pin TSSOP; PartNumber: DS90CF364AMTDX; Manufacturer: National Semiconductor; PackageTopMarking: NS2ZXYTTE#*DS90CF364AMTD*BBBBB; PowerWise: N; CompType: Interface IC; Published: 1-Mar-2010; DatasheetVersion: Jul-2007; PackageVersion: revE, Apr-2003; PackageReference: MTD48; Publisher: Altium Limited; PackageDescription: Molded TSSOP, Jedec, 12.5 x 6.1 x 0.9mm Body, 48 Lead, 0.50mm Pitch; RoHS: N; PinCount: 48; Code_JEDEC: MO-153-ED; ComponentLink1Description: DS90CF364A Datasheet; ComponentLink1URL: http://www.national.com/ds/DS/DS90CF364A.pdf; ComponentLink2Description: DS90CF364A Web Page; ComponentLink2URL: http://www.national.com/pf/DS/DS90CF364A.html; ComponentLink3Description: MTD48 Package Page; ComponentLink3URL: http://www.national.com/packaging/folders/mtd48.html
footprint MTD48_N (TSSOP, 48-Leads, Body 12.5x6.1mm, Pitch 0.5mm, IPC Medium Density)
footprint MTD48_L (TSSOP, 48-Leads, Body 12.5x6.1mm, Pitch 0.5mm, IPC High Density)
footprint MTD48_M (TSSOP, 48-Leads, Body 12.5x6.1mm, Pitch 0.5mm, IPC Low Density)
pins: 1 RxOUT17 (out), 2 RxOUT18 (out), 3 GND (power), 4 RxOUT19 (out), 5 RxOUT20 (out), 6 NC, 7 LVDS GND (power), 8 RxIN0- (in), 9 RxIN0+ (in), 10 RxIN1- (in), 11 RxIN1+ (in), 12 LVDS VCC (power), 13 LVDS GND (power), 14 RxIN2- (in), 15 RxIN2+ (in), 16 RxCLKIN- (in), 17 RxCLKIN+ (in), 18 LVDS GND (power), 19 PLL GND (power), 20 PLL VCC (power), 21 PLL GND (power), 22 ~{PWR DWN} (in), 23 RxCLKOUT (out), 24 RxOUT0 (out), 25 GND (power), 26 RxOUT1 (out), 27 RxOUT2 (out), 28 VCC (power), 29 RxOUT3 (out), 30 RxOUT4 (out), 31 RxOUT5 (out), 32 GND (power), 33 RxOUT6 (out), 34 RxOUT7 (out), 35 RxOUT8 (out), 36 VCC (power), 37 RxOUT9 (out), 38 GND (power), 39 RxOUT10 (out), 40 RxOUT11 (out), 41 RxOUT12 (out), 42 VCC (power), 43 RxOUT13 (out), 44 GND (power), 45 RxOUT14 (out), 46 RxOUT15 (out), 47 RxOUT16 (out), 48 VCC (power)

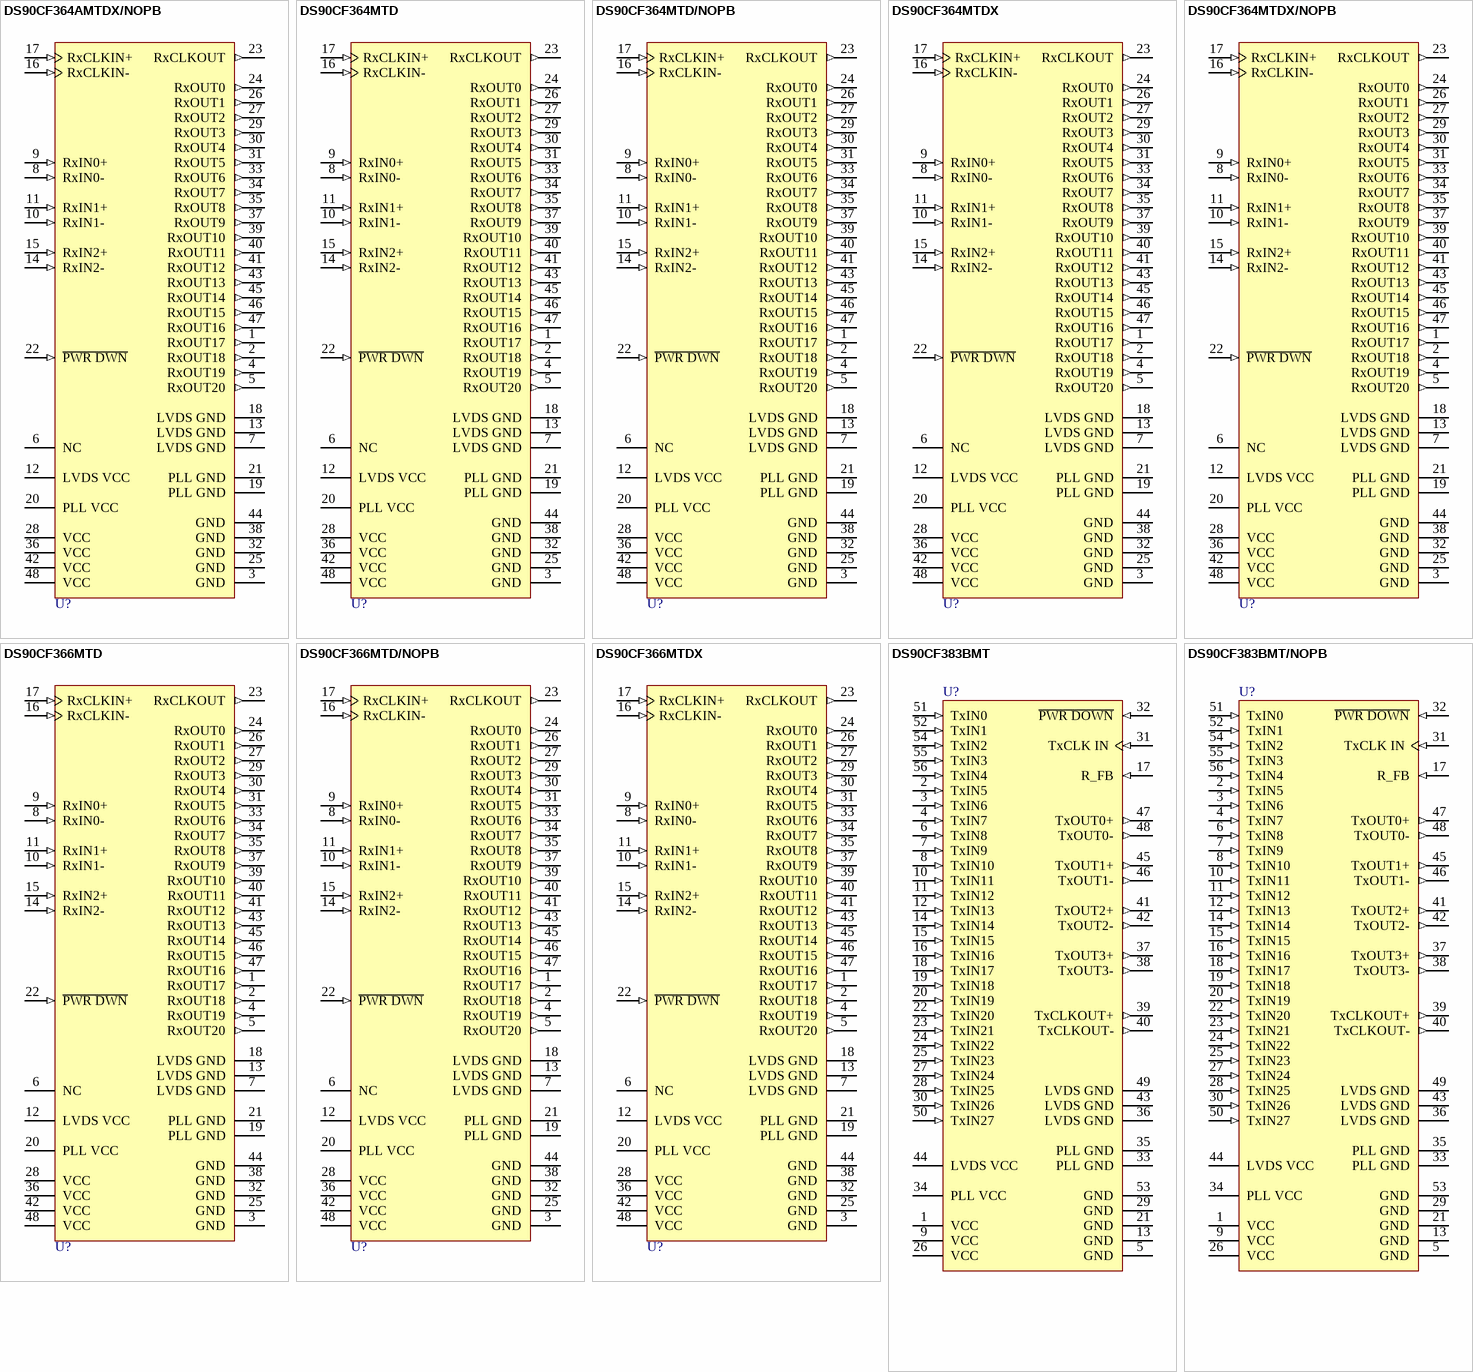
[diagram p36: symbols DS90CF364AMTDX/NOPB to DS90CF383BMT/NOPB]

## DS90CF364AMTDX/NOPB
designator U?
+3.3V LVDS Receiver 18-Bit Flat Panel Display (FPD) Link - 65 MHz, 48-pin TSSOP, Pb-Free; PartNumber: DS90CF364AMTDX/NOPB; Manufacturer: National Semiconductor; PackageTopMarking: NS2ZXYTTE#*DS90CF364AMTD*BBBBB; PowerWise: N; CompType: Interface IC; Published: 1-Mar-2010; DatasheetVersion: Jul-2007; PackageVersion: revE, Apr-2003; PackageReference: MTD48; Publisher: Altium Limited; PackageDescription: Molded TSSOP, Jedec, 12.5 x 6.1 x 0.9mm Body, 48 Lead, 0.50mm Pitch; Supplier 1: Digi-Key; Supplier Part Number 1: DS90CF364AMTDX-ND; RoHS: Y; PinCount: 48; Code_JEDEC: MO-153-ED; ComponentLink1Description: DS90CF364A Datasheet; ComponentLink1URL: http://www.national.com/ds/DS/DS90CF364A.pdf; ComponentLink2Description: DS90CF364A Web Page; ComponentLink2URL: http://www.national.com/pf/DS/DS90CF364A.html; ComponentLink3Description: MTD48 Package Page; ComponentLink3URL: http://www.national.com/packaging/folders/mtd48.html
footprint MTD48_N (TSSOP, 48-Leads, Body 12.5x6.1mm, Pitch 0.5mm, IPC Medium Density)
footprint MTD48_L (TSSOP, 48-Leads, Body 12.5x6.1mm, Pitch 0.5mm, IPC High Density)
footprint MTD48_M (TSSOP, 48-Leads, Body 12.5x6.1mm, Pitch 0.5mm, IPC Low Density)
pins: 1 RxOUT17 (out), 2 RxOUT18 (out), 3 GND (power), 4 RxOUT19 (out), 5 RxOUT20 (out), 6 NC, 7 LVDS GND (power), 8 RxIN0- (in), 9 RxIN0+ (in), 10 RxIN1- (in), 11 RxIN1+ (in), 12 LVDS VCC (power), 13 LVDS GND (power), 14 RxIN2- (in), 15 RxIN2+ (in), 16 RxCLKIN- (in), 17 RxCLKIN+ (in), 18 LVDS GND (power), 19 PLL GND (power), 20 PLL VCC (power), 21 PLL GND (power), 22 ~{PWR DWN} (in), 23 RxCLKOUT (out), 24 RxOUT0 (out), 25 GND (power), 26 RxOUT1 (out), 27 RxOUT2 (out), 28 VCC (power), 29 RxOUT3 (out), 30 RxOUT4 (out), 31 RxOUT5 (out), 32 GND (power), 33 RxOUT6 (out), 34 RxOUT7 (out), 35 RxOUT8 (out), 36 VCC (power), 37 RxOUT9 (out), 38 GND (power), 39 RxOUT10 (out), 40 RxOUT11 (out), 41 RxOUT12 (out), 42 VCC (power), 43 RxOUT13 (out), 44 GND (power), 45 RxOUT14 (out), 46 RxOUT15 (out), 47 RxOUT16 (out), 48 VCC (power)

## DS90CF364MTD
designator U?
+3.3V LVDS Receiver 18-Bit Flat Panel Display (FPD) Link - 65 MHz, 48-pin TSSOP; PartNumber: DS90CF364MTD; Manufacturer: National Semiconductor; PackageTopMarking: NS2ZXYTTE#*DS90CF364MTD*BBBBB; PowerWise: N; CompType: Interface IC; Published: 4-Dec-2008; DatasheetVersion: Sep-1999; PackageVersion: revE, Apr-2003; PackageReference: MTD48; Publisher: Altium Limited; PackageDescription: Molded TSSOP, Jedec, 12.5 x 6.1 x 0.9mm Body, 48 Lead, 0.50mm Pitch; Supplier 1: Farnell; Supplier Part Number 1: 1652264; RoHS: N; PinCount: 48; Code_JEDEC: MO-153-ED; ComponentLink1Description: DS90CF364 Datasheet; ComponentLink1URL: http://www.national.com/ds/DS/DS90CF364.pdf; ComponentLink2Description: DS90CF364 Web Page; ComponentLink2URL: http://www.national.com/pf/DS/DS90CF364.html; ComponentLink3Description: MTD48 Package Page; ComponentLink3URL: http://www.national.com/packaging/folders/mtd48.html
footprint MTD48_N (TSSOP, 48-Leads, Body 12.5x6.1mm, Pitch 0.5mm, IPC Medium Density)
footprint MTD48_L (TSSOP, 48-Leads, Body 12.5x6.1mm, Pitch 0.5mm, IPC High Density)
footprint MTD48_M (TSSOP, 48-Leads, Body 12.5x6.1mm, Pitch 0.5mm, IPC Low Density)
pins: 1 RxOUT17 (out), 2 RxOUT18 (out), 3 GND (power), 4 RxOUT19 (out), 5 RxOUT20 (out), 6 NC, 7 LVDS GND (power), 8 RxIN0- (in), 9 RxIN0+ (in), 10 RxIN1- (in), 11 RxIN1+ (in), 12 LVDS VCC (power), 13 LVDS GND (power), 14 RxIN2- (in), 15 RxIN2+ (in), 16 RxCLKIN- (in), 17 RxCLKIN+ (in), 18 LVDS GND (power), 19 PLL GND (power), 20 PLL VCC (power), 21 PLL GND (power), 22 ~{PWR DWN} (in), 23 RxCLKOUT (out), 24 RxOUT0 (out), 25 GND (power), 26 RxOUT1 (out), 27 RxOUT2 (out), 28 VCC (power), 29 RxOUT3 (out), 30 RxOUT4 (out), 31 RxOUT5 (out), 32 GND (power), 33 RxOUT6 (out), 34 RxOUT7 (out), 35 RxOUT8 (out), 36 VCC (power), 37 RxOUT9 (out), 38 GND (power), 39 RxOUT10 (out), 40 RxOUT11 (out), 41 RxOUT12 (out), 42 VCC (power), 43 RxOUT13 (out), 44 GND (power), 45 RxOUT14 (out), 46 RxOUT15 (out), 47 RxOUT16 (out), 48 VCC (power)

## DS90CF364MTD/NOPB
designator U?
+3.3V LVDS Receiver 18-Bit Flat Panel Display (FPD) Link - 65 MHz, 48-pin TSSOP, Pb-Free; PartNumber: DS90CF364MTD/NOPB; Manufacturer: National Semiconductor; PackageTopMarking: NS2ZXYTTE#*DS90CF364MTD*BBBBB; PowerWise: N; CompType: Interface IC; Published: 1-Mar-2010; DatasheetVersion: Sep-1999; PackageVersion: revE, Apr-2003; PackageReference: MTD48; Publisher: Altium Limited; PackageDescription: Molded TSSOP, Jedec, 12.5 x 6.1 x 0.9mm Body, 48 Lead, 0.50mm Pitch; Supplier 1: Digi-Key; Supplier Part Number 1: DS90CF364MTD-ND; Supplier 2: Farnell; Supplier Part Number 2: 1693511; RoHS: Y; PinCount: 48; Code_JEDEC: MO-153-ED; ComponentLink1Description: DS90CF364 Datasheet; ComponentLink1URL: http://www.national.com/ds/DS/DS90CF364.pdf; ComponentLink2Description: DS90CF364 Web Page; ComponentLink2URL: http://www.national.com/pf/DS/DS90CF364.html; ComponentLink3Description: MTD48 Package Page; ComponentLink3URL: http://www.national.com/packaging/folders/mtd48.html
footprint MTD48_N (TSSOP, 48-Leads, Body 12.5x6.1mm, Pitch 0.5mm, IPC Medium Density)
footprint MTD48_L (TSSOP, 48-Leads, Body 12.5x6.1mm, Pitch 0.5mm, IPC High Density)
footprint MTD48_M (TSSOP, 48-Leads, Body 12.5x6.1mm, Pitch 0.5mm, IPC Low Density)
pins: 1 RxOUT17 (out), 2 RxOUT18 (out), 3 GND (power), 4 RxOUT19 (out), 5 RxOUT20 (out), 6 NC, 7 LVDS GND (power), 8 RxIN0- (in), 9 RxIN0+ (in), 10 RxIN1- (in), 11 RxIN1+ (in), 12 LVDS VCC (power), 13 LVDS GND (power), 14 RxIN2- (in), 15 RxIN2+ (in), 16 RxCLKIN- (in), 17 RxCLKIN+ (in), 18 LVDS GND (power), 19 PLL GND (power), 20 PLL VCC (power), 21 PLL GND (power), 22 ~{PWR DWN} (in), 23 RxCLKOUT (out), 24 RxOUT0 (out), 25 GND (power), 26 RxOUT1 (out), 27 RxOUT2 (out), 28 VCC (power), 29 RxOUT3 (out), 30 RxOUT4 (out), 31 RxOUT5 (out), 32 GND (power), 33 RxOUT6 (out), 34 RxOUT7 (out), 35 RxOUT8 (out), 36 VCC (power), 37 RxOUT9 (out), 38 GND (power), 39 RxOUT10 (out), 40 RxOUT11 (out), 41 RxOUT12 (out), 42 VCC (power), 43 RxOUT13 (out), 44 GND (power), 45 RxOUT14 (out), 46 RxOUT15 (out), 47 RxOUT16 (out), 48 VCC (power)

## DS90CF364MTDX
designator U?
+3.3V LVDS Receiver 18-Bit Flat Panel Display (FPD) Link - 65 MHz, 48-pin TSSOP; PartNumber: DS90CF364MTDX; Manufacturer: National Semiconductor; PackageTopMarking: NS2ZXYTTE#*DS90CF364MTD*BBBBB; PowerWise: N; CompType: Interface IC; Published: 1-Mar-2010; DatasheetVersion: Sep-1999; PackageVersion: revE, Apr-2003; PackageReference: MTD48; Publisher: Altium Limited; PackageDescription: Molded TSSOP, Jedec, 12.5 x 6.1 x 0.9mm Body, 48 Lead, 0.50mm Pitch; RoHS: N; PinCount: 48; Code_JEDEC: MO-153-ED; ComponentLink1Description: DS90CF364 Datasheet; ComponentLink1URL: http://www.national.com/ds/DS/DS90CF364.pdf; ComponentLink2Description: DS90CF364 Web Page; ComponentLink2URL: http://www.national.com/pf/DS/DS90CF364.html; ComponentLink3Description: MTD48 Package Page; ComponentLink3URL: http://www.national.com/packaging/folders/mtd48.html
footprint MTD48_N (TSSOP, 48-Leads, Body 12.5x6.1mm, Pitch 0.5mm, IPC Medium Density)
footprint MTD48_L (TSSOP, 48-Leads, Body 12.5x6.1mm, Pitch 0.5mm, IPC High Density)
footprint MTD48_M (TSSOP, 48-Leads, Body 12.5x6.1mm, Pitch 0.5mm, IPC Low Density)
pins: 1 RxOUT17 (out), 2 RxOUT18 (out), 3 GND (power), 4 RxOUT19 (out), 5 RxOUT20 (out), 6 NC, 7 LVDS GND (power), 8 RxIN0- (in), 9 RxIN0+ (in), 10 RxIN1- (in), 11 RxIN1+ (in), 12 LVDS VCC (power), 13 LVDS GND (power), 14 RxIN2- (in), 15 RxIN2+ (in), 16 RxCLKIN- (in), 17 RxCLKIN+ (in), 18 LVDS GND (power), 19 PLL GND (power), 20 PLL VCC (power), 21 PLL GND (power), 22 ~{PWR DWN} (in), 23 RxCLKOUT (out), 24 RxOUT0 (out), 25 GND (power), 26 RxOUT1 (out), 27 RxOUT2 (out), 28 VCC (power), 29 RxOUT3 (out), 30 RxOUT4 (out), 31 RxOUT5 (out), 32 GND (power), 33 RxOUT6 (out), 34 RxOUT7 (out), 35 RxOUT8 (out), 36 VCC (power), 37 RxOUT9 (out), 38 GND (power), 39 RxOUT10 (out), 40 RxOUT11 (out), 41 RxOUT12 (out), 42 VCC (power), 43 RxOUT13 (out), 44 GND (power), 45 RxOUT14 (out), 46 RxOUT15 (out), 47 RxOUT16 (out), 48 VCC (power)

## DS90CF364MTDX/NOPB
designator U?
+3.3V LVDS Receiver 18-Bit Flat Panel Display (FPD) Link - 65 MHz, 48-pin TSSOP, Pb-Free; PartNumber: DS90CF364MTDX/NOPB; Manufacturer: National Semiconductor; PackageTopMarking: NS2ZXYTTE#*DS90CF364MTD*BBBBB; PowerWise: N; CompType: Interface IC; Published: 1-Mar-2010; DatasheetVersion: Sep-1999; PackageVersion: revE, Apr-2003; PackageReference: MTD48; Publisher: Altium Limited; PackageDescription: Molded TSSOP, Jedec, 12.5 x 6.1 x 0.9mm Body, 48 Lead, 0.50mm Pitch; Supplier 1: Digi-Key; Supplier Part Number 1: DS90CF364MTDX-ND; RoHS: Y; PinCount: 48; Code_JEDEC: MO-153-ED; ComponentLink1Description: DS90CF364 Datasheet; ComponentLink1URL: http://www.national.com/ds/DS/DS90CF364.pdf; ComponentLink2Description: DS90CF364 Web Page; ComponentLink2URL: http://www.national.com/pf/DS/DS90CF364.html; ComponentLink3Description: MTD48 Package Page; ComponentLink3URL: http://www.national.com/packaging/folders/mtd48.html
footprint MTD48_N (TSSOP, 48-Leads, Body 12.5x6.1mm, Pitch 0.5mm, IPC Medium Density)
footprint MTD48_L (TSSOP, 48-Leads, Body 12.5x6.1mm, Pitch 0.5mm, IPC High Density)
footprint MTD48_M (TSSOP, 48-Leads, Body 12.5x6.1mm, Pitch 0.5mm, IPC Low Density)
pins: 1 RxOUT17 (out), 2 RxOUT18 (out), 3 GND (power), 4 RxOUT19 (out), 5 RxOUT20 (out), 6 NC, 7 LVDS GND (power), 8 RxIN0- (in), 9 RxIN0+ (in), 10 RxIN1- (in), 11 RxIN1+ (in), 12 LVDS VCC (power), 13 LVDS GND (power), 14 RxIN2- (in), 15 RxIN2+ (in), 16 RxCLKIN- (in), 17 RxCLKIN+ (in), 18 LVDS GND (power), 19 PLL GND (power), 20 PLL VCC (power), 21 PLL GND (power), 22 ~{PWR DWN} (in), 23 RxCLKOUT (out), 24 RxOUT0 (out), 25 GND (power), 26 RxOUT1 (out), 27 RxOUT2 (out), 28 VCC (power), 29 RxOUT3 (out), 30 RxOUT4 (out), 31 RxOUT5 (out), 32 GND (power), 33 RxOUT6 (out), 34 RxOUT7 (out), 35 RxOUT8 (out), 36 VCC (power), 37 RxOUT9 (out), 38 GND (power), 39 RxOUT10 (out), 40 RxOUT11 (out), 41 RxOUT12 (out), 42 VCC (power), 43 RxOUT13 (out), 44 GND (power), 45 RxOUT14 (out), 46 RxOUT15 (out), 47 RxOUT16 (out), 48 VCC (power)

## DS90CF366MTD
designator U?
+3.3V LVDS Receiver 18-Bit Flat Panel Display (FPD) Link - 85 MHz, 48-pin TSSOP; PartNumber: DS90CF366MTD; Manufacturer: National Semiconductor; PackageTopMarking: NSUZXYTTE#*DS90CF366MTD*BBBBB; PowerWise: N; CompType: Interface IC; Published: 4-Dec-2008; DatasheetVersion: Feb-2006; PackageVersion: revE, Apr-2003; PackageReference: MTD48; Publisher: Altium Limited; PackageDescription: Molded TSSOP, Jedec, 12.5 x 6.1 x 0.9mm Body, 48 Lead, 0.50mm Pitch; RoHS: N; PinCount: 48; Code_JEDEC: MO-153-ED; ComponentLink1Description: DS90CF366 Datasheet; ComponentLink1URL: http://www.national.com/ds/DS/DS90CF366.pdf; ComponentLink2Description: DS90CF366 Web Page; ComponentLink2URL: http://www.national.com/pf/DS/DS90CF366.html; ComponentLink3Description: MTD48 Package Page; ComponentLink3URL: http://www.national.com/packaging/folders/mtd48.html
footprint MTD48_N (TSSOP, 48-Leads, Body 12.5x6.1mm, Pitch 0.5mm, IPC Medium Density)
footprint MTD48_L (TSSOP, 48-Leads, Body 12.5x6.1mm, Pitch 0.5mm, IPC High Density)
footprint MTD48_M (TSSOP, 48-Leads, Body 12.5x6.1mm, Pitch 0.5mm, IPC Low Density)
pins: 1 RxOUT17 (out), 2 RxOUT18 (out), 3 GND (power), 4 RxOUT19 (out), 5 RxOUT20 (out), 6 NC, 7 LVDS GND (power), 8 RxIN0- (in), 9 RxIN0+ (in), 10 RxIN1- (in), 11 RxIN1+ (in), 12 LVDS VCC (power), 13 LVDS GND (power), 14 RxIN2- (in), 15 RxIN2+ (in), 16 RxCLKIN- (in), 17 RxCLKIN+ (in), 18 LVDS GND (power), 19 PLL GND (power), 20 PLL VCC (power), 21 PLL GND (power), 22 ~{PWR DWN} (in), 23 RxCLKOUT (out), 24 RxOUT0 (out), 25 GND (power), 26 RxOUT1 (out), 27 RxOUT2 (out), 28 VCC (power), 29 RxOUT3 (out), 30 RxOUT4 (out), 31 RxOUT5 (out), 32 GND (power), 33 RxOUT6 (out), 34 RxOUT7 (out), 35 RxOUT8 (out), 36 VCC (power), 37 RxOUT9 (out), 38 GND (power), 39 RxOUT10 (out), 40 RxOUT11 (out), 41 RxOUT12 (out), 42 VCC (power), 43 RxOUT13 (out), 44 GND (power), 45 RxOUT14 (out), 46 RxOUT15 (out), 47 RxOUT16 (out), 48 VCC (power)

## DS90CF366MTD/NOPB
designator U?
+3.3V LVDS Receiver 18-Bit Flat Panel Display (FPD) Link - 85 MHz, 48-pin TSSOP, Pb-Free; PartNumber: DS90CF366MTD/NOPB; Manufacturer: National Semiconductor; PackageTopMarking: NSUZXYTTE#*DS90CF366MTD*BBBBB; PowerWise: N; CompType: Interface IC; Published: 1-Mar-2010; DatasheetVersion: Feb-2006; PackageVersion: revE, Apr-2003; PackageReference: MTD48; Publisher: Altium Limited; PackageDescription: Molded TSSOP, Jedec, 12.5 x 6.1 x 0.9mm Body, 48 Lead, 0.50mm Pitch; Supplier 1: Digi-Key; Supplier Part Number 1: DS90CF366MTD-ND; Supplier 2: Farnell; Supplier Part Number 2: 1559300; RoHS: Y; PinCount: 48; Code_JEDEC: MO-153-ED; ComponentLink1Description: DS90CF366 Datasheet; ComponentLink1URL: http://www.national.com/ds/DS/DS90CF366.pdf; ComponentLink2Description: DS90CF366 Web Page; ComponentLink2URL: http://www.national.com/pf/DS/DS90CF366.html; ComponentLink3Description: MTD48 Package Page; ComponentLink3URL: http://www.national.com/packaging/folders/mtd48.html
footprint MTD48_N (TSSOP, 48-Leads, Body 12.5x6.1mm, Pitch 0.5mm, IPC Medium Density)
footprint MTD48_L (TSSOP, 48-Leads, Body 12.5x6.1mm, Pitch 0.5mm, IPC High Density)
footprint MTD48_M (TSSOP, 48-Leads, Body 12.5x6.1mm, Pitch 0.5mm, IPC Low Density)
pins: 1 RxOUT17 (out), 2 RxOUT18 (out), 3 GND (power), 4 RxOUT19 (out), 5 RxOUT20 (out), 6 NC, 7 LVDS GND (power), 8 RxIN0- (in), 9 RxIN0+ (in), 10 RxIN1- (in), 11 RxIN1+ (in), 12 LVDS VCC (power), 13 LVDS GND (power), 14 RxIN2- (in), 15 RxIN2+ (in), 16 RxCLKIN- (in), 17 RxCLKIN+ (in), 18 LVDS GND (power), 19 PLL GND (power), 20 PLL VCC (power), 21 PLL GND (power), 22 ~{PWR DWN} (in), 23 RxCLKOUT (out), 24 RxOUT0 (out), 25 GND (power), 26 RxOUT1 (out), 27 RxOUT2 (out), 28 VCC (power), 29 RxOUT3 (out), 30 RxOUT4 (out), 31 RxOUT5 (out), 32 GND (power), 33 RxOUT6 (out), 34 RxOUT7 (out), 35 RxOUT8 (out), 36 VCC (power), 37 RxOUT9 (out), 38 GND (power), 39 RxOUT10 (out), 40 RxOUT11 (out), 41 RxOUT12 (out), 42 VCC (power), 43 RxOUT13 (out), 44 GND (power), 45 RxOUT14 (out), 46 RxOUT15 (out), 47 RxOUT16 (out), 48 VCC (power)

## DS90CF366MTDX
designator U?
+3.3V LVDS Receiver 18-Bit Flat Panel Display (FPD) Link - 85 MHz, 48-pin TSSOP; PartNumber: DS90CF366MTDX; Manufacturer: National Semiconductor; PackageTopMarking: NSUZXYTTE#*DS90CF366MTD*BBBBB; PowerWise: N; CompType: Interface IC; Published: 1-Mar-2010; DatasheetVersion: Feb-2006; PackageVersion: revE, Apr-2003; PackageReference: MTD48; Publisher: Altium Limited; PackageDescription: Molded TSSOP, Jedec, 12.5 x 6.1 x 0.9mm Body, 48 Lead, 0.50mm Pitch; RoHS: N; PinCount: 48; Code_JEDEC: MO-153-ED; ComponentLink1Description: DS90CF366 Datasheet; ComponentLink1URL: http://www.national.com/ds/DS/DS90CF366.pdf; ComponentLink2Description: DS90CF366 Web Page; ComponentLink2URL: http://www.national.com/pf/DS/DS90CF366.html; ComponentLink3Description: MTD48 Package Page; ComponentLink3URL: http://www.national.com/packaging/folders/mtd48.html
footprint MTD48_N (TSSOP, 48-Leads, Body 12.5x6.1mm, Pitch 0.5mm, IPC Medium Density)
footprint MTD48_L (TSSOP, 48-Leads, Body 12.5x6.1mm, Pitch 0.5mm, IPC High Density)
footprint MTD48_M (TSSOP, 48-Leads, Body 12.5x6.1mm, Pitch 0.5mm, IPC Low Density)
pins: 1 RxOUT17 (out), 2 RxOUT18 (out), 3 GND (power), 4 RxOUT19 (out), 5 RxOUT20 (out), 6 NC, 7 LVDS GND (power), 8 RxIN0- (in), 9 RxIN0+ (in), 10 RxIN1- (in), 11 RxIN1+ (in), 12 LVDS VCC (power), 13 LVDS GND (power), 14 RxIN2- (in), 15 RxIN2+ (in), 16 RxCLKIN- (in), 17 RxCLKIN+ (in), 18 LVDS GND (power), 19 PLL GND (power), 20 PLL VCC (power), 21 PLL GND (power), 22 ~{PWR DWN} (in), 23 RxCLKOUT (out), 24 RxOUT0 (out), 25 GND (power), 26 RxOUT1 (out), 27 RxOUT2 (out), 28 VCC (power), 29 RxOUT3 (out), 30 RxOUT4 (out), 31 RxOUT5 (out), 32 GND (power), 33 RxOUT6 (out), 34 RxOUT7 (out), 35 RxOUT8 (out), 36 VCC (power), 37 RxOUT9 (out), 38 GND (power), 39 RxOUT10 (out), 40 RxOUT11 (out), 41 RxOUT12 (out), 42 VCC (power), 43 RxOUT13 (out), 44 GND (power), 45 RxOUT14 (out), 46 RxOUT15 (out), 47 RxOUT16 (out), 48 VCC (power)

## DS90CF383BMT
designator U?
+3.3V LVDS Transmitter 24-Bit Flat Panel Display (FPD) Link - 65 MHz, 56-pin TSSOP; PartNumber: DS90CF383BMT; Manufacturer: National Semiconductor; PackageTopMarking: NSUZXYTTE#*DS90CF383BMT; PowerWise: N; CompType: Interface IC; Published: 4-Dec-2008; DatasheetVersion: Oct-2006; PackageVersion: revD, Apr-2003; PackageReference: MTD56; Publisher: Altium Limited; PackageDescription: Molded TSSOP, Jedec, 14 x 6.1 x 0.9mm Body, 56 Lead, 0.50mm Pitch; Supplier 1: Farnell; Supplier Part Number 1: 8238626; RoHS: N; PinCount: 56; Code_IPC: TSSOP50P810-56; ComponentLink1Description: DS90CF383B Datasheet; ComponentLink1URL: http://www.national.com/ds/DS/DS90C383B.pdf; ComponentLink2Description: DS90CF383B Web Page; ComponentLink2URL: http://www.national.com/pf/DS/DS90CF383B.html; ComponentLink3Description: MTD56 Package Page; ComponentLink3URL: http://www.national.com/packaging/folders/mtd56.html
footprint MTD56_N (TSSOP, 56-Leads, Body 14x6.1mm, Pitch 0.5mm, IPC Medium Density)
footprint MTD56_L (TSSOP, 56-Leads, Body 14x6.1mm, Pitch 0.5mm, IPC High Density)
footprint MTD56_M (TSSOP, 56-Leads, Body 14x6.1mm, Pitch 0.5mm, IPC Low Density)
pins: 1 VCC (power), 2 TxIN5 (in), 3 TxIN6 (in), 4 TxIN7 (in), 5 GND (power), 6 TxIN8 (in), 7 TxIN9 (in), 8 TxIN10 (in), 9 VCC (power), 10 TxIN11 (in), 11 TxIN12 (in), 12 TxIN13 (in), 13 GND (power), 14 TxIN14 (in), 15 TxIN15 (in), 16 TxIN16 (in), 17 R_FB (in), 18 TxIN17 (in), 19 TxIN18 (in), 20 TxIN19 (in), 21 GND (power), 22 TxIN20 (in), 23 TxIN21 (in), 24 TxIN22 (in), 25 TxIN23 (in), 26 VCC (power), 27 TxIN24 (in), 28 TxIN25 (in), 29 GND (power), 30 TxIN26 (in), 31 TxCLK IN (in), 32 ~{PWR DOWN} (in), 33 PLL GND (power), 34 PLL VCC (power), 35 PLL GND (power), 36 LVDS GND (power), 37 TxOUT3+ (out), 38 TxOUT3- (out), 39 TxCLKOUT+ (out), 40 TxCLKOUT- (out), 41 TxOUT2+ (out), 42 TxOUT2- (out), 43 LVDS GND (power), 44 LVDS VCC (power), 45 TxOUT1+ (out), 46 TxOUT1- (out), 47 TxOUT0+ (out), 48 TxOUT0- (out), 49 LVDS GND (power), 50 TxIN27 (in), 51 TxIN0 (in), 52 TxIN1 (in), 53 GND (power), 54 TxIN2 (in), 55 TxIN3 (in), 56 TxIN4 (in)

## DS90CF383BMT/NOPB
designator U?
+3.3V Programmable LVDS Transmitter 24-Bit Flat Panel Display (FPD) Link - 65 MHz, 56-pin TSSOP, Pb-Free; PartNumber: DS90CF383BMT/NOPB; Manufacturer: National Semiconductor; PackageTopMarking: NSUZXYTTE#*DS90CF383BMT; PowerWise: N; CompType: Interface IC; Published: 1-Mar-2010; DatasheetVersion: Oct-2006; PackageVersion: revD, Apr-2003; PackageReference: MTD56; Publisher: Altium Limited; PackageDescription: Molded TSSOP, Jedec, 14 x 6.1 x 0.9mm Body, 56 Lead, 0.50mm Pitch; Supplier 1: Digi-Key; Supplier Part Number 1: DS90CF383BMT-ND; RoHS: Y; PinCount: 56; Code_IPC: TSSOP50P810-56; ComponentLink1Description: DS90CF383B Datasheet; ComponentLink1URL: http://www.national.com/ds/DS/DS90C383B.pdf; ComponentLink2Description: DS90CF383B Web Page; ComponentLink2URL: http://www.national.com/pf/DS/DS90CF383B.html; ComponentLink3Description: MTD56 Package Page; ComponentLink3URL: http://www.national.com/packaging/folders/mtd56.html
footprint MTD56_N (TSSOP, 56-Leads, Body 14x6.1mm, Pitch 0.5mm, IPC Medium Density)
footprint MTD56_L (TSSOP, 56-Leads, Body 14x6.1mm, Pitch 0.5mm, IPC High Density)
footprint MTD56_M (TSSOP, 56-Leads, Body 14x6.1mm, Pitch 0.5mm, IPC Low Density)
pins: 1 VCC (power), 2 TxIN5 (in), 3 TxIN6 (in), 4 TxIN7 (in), 5 GND (power), 6 TxIN8 (in), 7 TxIN9 (in), 8 TxIN10 (in), 9 VCC (power), 10 TxIN11 (in), 11 TxIN12 (in), 12 TxIN13 (in), 13 GND (power), 14 TxIN14 (in), 15 TxIN15 (in), 16 TxIN16 (in), 17 R_FB (in), 18 TxIN17 (in), 19 TxIN18 (in), 20 TxIN19 (in), 21 GND (power), 22 TxIN20 (in), 23 TxIN21 (in), 24 TxIN22 (in), 25 TxIN23 (in), 26 VCC (power), 27 TxIN24 (in), 28 TxIN25 (in), 29 GND (power), 30 TxIN26 (in), 31 TxCLK IN (in), 32 ~{PWR DOWN} (in), 33 PLL GND (power), 34 PLL VCC (power), 35 PLL GND (power), 36 LVDS GND (power), 37 TxOUT3+ (out), 38 TxOUT3- (out), 39 TxCLKOUT+ (out), 40 TxCLKOUT- (out), 41 TxOUT2+ (out), 42 TxOUT2- (out), 43 LVDS GND (power), 44 LVDS VCC (power), 45 TxOUT1+ (out), 46 TxOUT1- (out), 47 TxOUT0+ (out), 48 TxOUT0- (out), 49 LVDS GND (power), 50 TxIN27 (in), 51 TxIN0 (in), 52 TxIN1 (in), 53 GND (power), 54 TxIN2 (in), 55 TxIN3 (in), 56 TxIN4 (in)

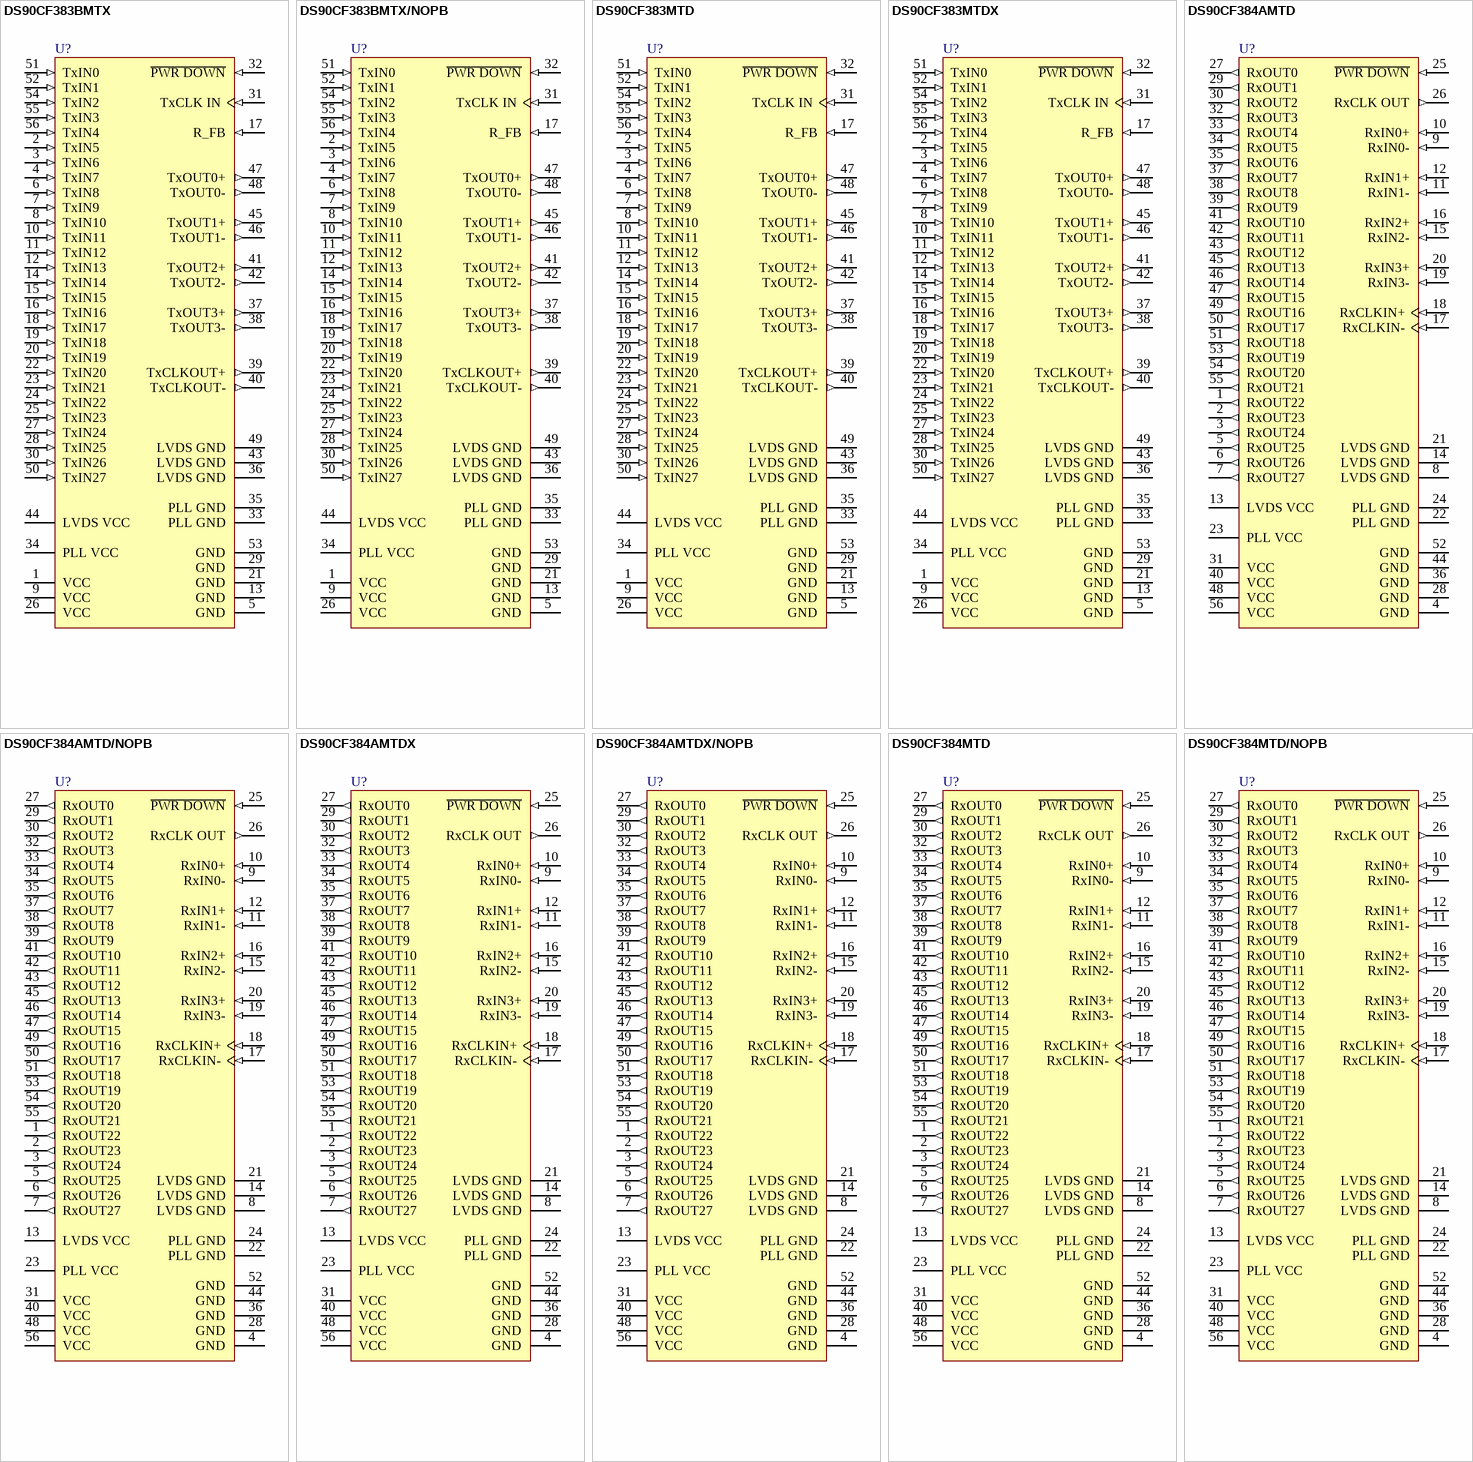
[diagram p37: symbols DS90CF383BMTX to DS90CF384MTD/NOPB]

## DS90CF383BMTX
designator U?
+3.3V LVDS Transmitter 24-Bit Flat Panel Display (FPD) Link - 65 MHz, 56-pin TSSOP; PartNumber: DS90CF383BMTX; Manufacturer: National Semiconductor; PackageTopMarking: NSUZXYTTE#*DS90CF383BMT; PowerWise: N; CompType: Interface IC; Published: 1-Mar-2010; DatasheetVersion: Oct-2005; PackageVersion: revD, Apr-2003; PackageReference: MTD56; Publisher: Altium Limited; PackageDescription: Molded TSSOP, Jedec, 14 x 6.1 x 0.9mm Body, 56 Lead, 0.50mm Pitch; RoHS: N; PinCount: 56; Code_IPC: TSSOP50P810-56; ComponentLink1Description: DS90CF383B Datasheet; ComponentLink1URL: http://www.national.com/ds/DS/DS90CF383B.pdf; ComponentLink2Description: DS90CF383B Web Page; ComponentLink2URL: http://www.national.com/pf/DS/DS90CF383B.html; ComponentLink3Description: MTD56 Package Page; ComponentLink3URL: http://www.national.com/packaging/folders/mtd56.html
footprint MTD56_N (TSSOP, 56-Leads, Body 14x6.1mm, Pitch 0.5mm, IPC Medium Density)
footprint MTD56_L (TSSOP, 56-Leads, Body 14x6.1mm, Pitch 0.5mm, IPC High Density)
footprint MTD56_M (TSSOP, 56-Leads, Body 14x6.1mm, Pitch 0.5mm, IPC Low Density)
pins: 1 VCC (power), 2 TxIN5 (in), 3 TxIN6 (in), 4 TxIN7 (in), 5 GND (power), 6 TxIN8 (in), 7 TxIN9 (in), 8 TxIN10 (in), 9 VCC (power), 10 TxIN11 (in), 11 TxIN12 (in), 12 TxIN13 (in), 13 GND (power), 14 TxIN14 (in), 15 TxIN15 (in), 16 TxIN16 (in), 17 R_FB (in), 18 TxIN17 (in), 19 TxIN18 (in), 20 TxIN19 (in), 21 GND (power), 22 TxIN20 (in), 23 TxIN21 (in), 24 TxIN22 (in), 25 TxIN23 (in), 26 VCC (power), 27 TxIN24 (in), 28 TxIN25 (in), 29 GND (power), 30 TxIN26 (in), 31 TxCLK IN (in), 32 ~{PWR DOWN} (in), 33 PLL GND (power), 34 PLL VCC (power), 35 PLL GND (power), 36 LVDS GND (power), 37 TxOUT3+ (out), 38 TxOUT3- (out), 39 TxCLKOUT+ (out), 40 TxCLKOUT- (out), 41 TxOUT2+ (out), 42 TxOUT2- (out), 43 LVDS GND (power), 44 LVDS VCC (power), 45 TxOUT1+ (out), 46 TxOUT1- (out), 47 TxOUT0+ (out), 48 TxOUT0- (out), 49 LVDS GND (power), 50 TxIN27 (in), 51 TxIN0 (in), 52 TxIN1 (in), 53 GND (power), 54 TxIN2 (in), 55 TxIN3 (in), 56 TxIN4 (in)